# Altium schematic symbol library USB3320C-EZK-TR.Schlib: 1 symbol
Pins are listed as number, name and electrical type; pins without a type are passive.

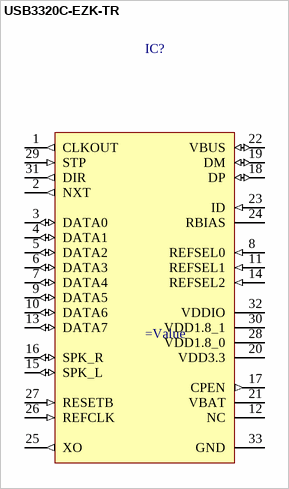
[diagram p0: symbol USB3320C-EZK-TR]

## USB3320C-EZK-TR
designator IC?
=Description
pins: 1 CLKOUT (out), 2 NXT (out), 3 DATA0 (io), 4 DATA1 (io), 5 DATA2 (io), 6 DATA3 (io), 7 DATA4 (io), 8 REFSEL0 (in), 9 DATA5 (io), 10 DATA6 (io), 11 REFSEL1 (in), 12 NC, 13 DATA7 (io), 14 REFSEL2 (in), 15 SPK_L (io), 16 SPK_R (io), 17 CPEN (out), 18 DP (io), 19 DM (io), 20 VDD3.3 (power), 21 VBAT (power), 22 VBUS (io), 23 ID (in), 24 RBIAS, 25 XO (out), 26 REFCLK (in), 27 RESETB (in), 28 VDD1.8_0 (power), 29 STP (in), 30 VDD1.8_1 (power), 31 DIR (out), 32 VDDIO (power), 33 GND (power)